# Altium footprint library WE-TVS-SUPER SPEED.PcbLib: 3 footprints
Each footprint in its own frame and in the unit in brackets; x right, y up, seen from the top. Pads: shape width x height; smd on the part's side, far side on the other; paste and mask are expansions set on the pad; w line width, h text height; cw(c..) or ccw(c..) is an arc to the next point about the centre after c.
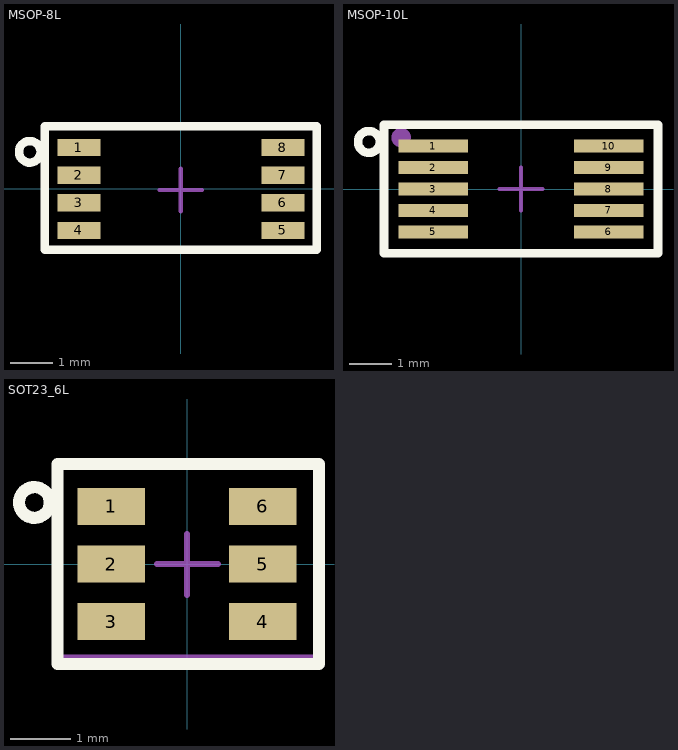
[diagram p0: the footprints below, top view; thin cyan lines are the x and y axes]

## MSOP-8L [mil] "MSOP-8L, 8-Leads, Body 5x3mm, Pitch 0.5mm"
height 38.39
pads (8):
  rect 40x16 smd: 1(-94.49,38.39) 2(-94.49,12.8) 3(-94.49,-12.8) 4(-94.49,-38.39) 5(94.49,-38.39) 6(94.49,-12.8) 7(94.49,12.8) 8(94.49,38.39)
Top Overlay:
  circle w7.87: c-139.92,34.45 r10
  lines w7.87: -125.98,-56.1 125.98,-56.1 125.98,58.07 -125.98,58.07 -125.98,-56.1
Mechanical 15:
  lines w3.94: -125.98,-56.1 -125.98,58.07 ; -19.69,-0.98 19.68,-0.98 ; 0,-20.67 0,18.7 ; 127.95,-54.13 127.95,58.07
  lines w4: -125.98,-56.1 125.98,-56.1 ; -125.98,58.07 127.95,58.07
3D body "WE-TVS_Super_Speed_MSOP-8L.stp": height 36.91, standoff -1.48, extent -92.51,-60.04 100.4,58.07

## MSOP-10L [mil] "MSOP-10L, 10-Leads, Body 5x3mm, Pitch 0.5mm"
height 38.39
pads (10):
  rect 64x12 smd: 1(-80.71,39.37) 2(-80.71,19.69) 3(-80.71,0) 4(-80.71,-19.68) 5(-80.71,-39.37) 6(80.71,-39.37) 7(80.71,-19.68) 8(80.71,0) 9(80.71,19.69) 10(80.71,39.37)
Top Overlay:
  circle w7.87: c-139.92,43.31 r10
  lines w7.87: -125.98,-59.06 125.98,-59.06 125.98,59.06 -125.98,59.06 -125.98,-59.06
Mechanical 15:
  lines w3.94: -125.98,-59.06 -125.98,59.06 ; -19.69,0 19.68,0 ; 0,-19.69 0,19.68 ; 125.98,-59.06 125.98,59.06
  lines w4: -125.98,-59.06 125.98,-59.06 ; -125.98,59.06 125.98,59.06
Mechanical 29:
  lines w5.91: -125.98,-59.06 125.98,-59.06 125.98,59.06 -125.98,59.06 -125.98,-59.06
  lines w10: -106.71,45.48 cw(c-110.24,47.24) -106.3,47.24
  text ".Designator" at -90.55,-15.75 h40
3D body "WE-TVS_Super_Speed_MSOP-10L.stp": height 36.52, standoff -1.87, extent -96.45,-59.06 96.46,59.05

## SOT23_6L [mil] "SOT23_6L, 6-Leads, Body 3.60x2.9mm, Pitch 0.95mm"
height 45.67
pads (6):
  rect 44x24 smd: 1(-49.21,37.4) 2(-49.21,0) 3(-49.21,-37.4) 4(49.21,-37.4) 5(49.21,0) 6(49.21,37.4)
Top Overlay:
  circle w7.87: c-99.21,40 r10
  lines w7.87: -84.21,-65 85.79,-65 85.79,65 -84.21,65 -84.21,-65
Mechanical 15:
  lines w3.94: -84.21,-60.98 -84.21,65 ; -19.37,0 20,0 ; 0,-20 0,19.37 ; 85.79,-60.98 85.79,65
  lines w4: -84.21,-60.98 85.79,-60.98 ; -84.21,65 85.79,65
3D body "WE-TVS_Standard_SOT23-6L_STD.stp": height 43.7, standoff -1.97, extent -55.11,-57.09 55.12,57.09